# EAGLE library part 692221030100 (library Eagle_WR-USB (rev25c))
WR-COM USB 3.0 Type B Horizontal Kind Properties Durability:5 000 Mating cycles Quality Class:5 000 Mating cycles Connector Type:USB Gender:Receptacle Type:Horizontal General Information Operating Temperature:-20up to +85 °C Compliance:RoHS Electrical Properties IR 1:1.8A Working Voltage:30V (AC) Withstanding Voltage:100V (AC) Contact Resistance:50 mΩ Material Properties Insulator Material:LCP Insulator Flammability Rating:UL94 V-0 Color:Blue Contact Material:Phosphor Bronze Contact Plating:Matte Tin over Nickel Contact Type:Stamped Shielding Material:Brass Shielding Plating:Nickel <https://www.we-online.com/catalog/media/o32966v209%20Family_WR-COM-USB_3.0_Horizontal_Type-B_692221030100.jpg> Details see: https://www.we-online.com/catalog/en/COM_3_0_TYPE_B_HORIZONTAL/ Updated by Yingchun, Shan 2020-01-17 2020 (C) Würth Elektronik
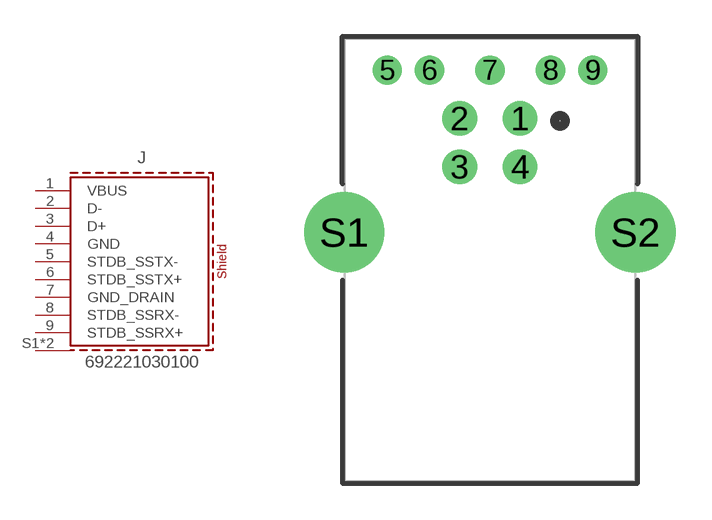
[diagram p5: symbol with the pads of 692221030100; footprint 692221030100]

Designator prefix J

## 692221030100 (APPLICATION: USB 3.0; DATASHEET-URL: https://www.we-online.com/redexpert/spec/692221030100?ae; GERDER: Receptacle; INTERFACE-TYPE: Type B; IR: 1.8A; MOUNT: THT; PACKAGING: Tray; PART-NUMBER: 692221030100; PINS: 9pcs; TYPE: Horizontal; VALUE: 692221030100; WORKING-VOLTAGE: 30VAC)  [692221030100]
1  VBUS  pas
2  D-  pas
3  D+  pas
4  GND  pas
5  STDB_SSTX-  pas
6  STDB_SSTX+  pas
7  GND_DRAIN  pas
8  STDB_SSRX-  pas
9  STDB_SSRX+  pas
S1  SHIELD  pas
S2  SHIELD  pas

## Footprint 692221030100 (pad centres in mm)
WR-COM USB 3.0 Type B Horizontal
drill 0.92: 1 1.25,5.86; 2 -1.25,5.86; 3 -1.25,3.86; 4 1.25,3.86
drill 0.7: 5 -4.25,7.86; 6 -2.5,7.86; 7 0,7.86; 8 2.5,7.86; 9 4.25,7.86
drill 2.3: S1 -6.02,1.15; S2 6.02,1.15